# Altium footprint library 691 212 710 0xx.PcbLib: 2 footprints
Each footprint in its own frame and in the unit in brackets; x right, y up, seen from the top. Pads: shape width x height; smd on the part's side, far side on the other; paste and mask are expansions set on the pad; w line width, h text height; cw(c..) or ccw(c..) is an arc to the next point about the centre after c.
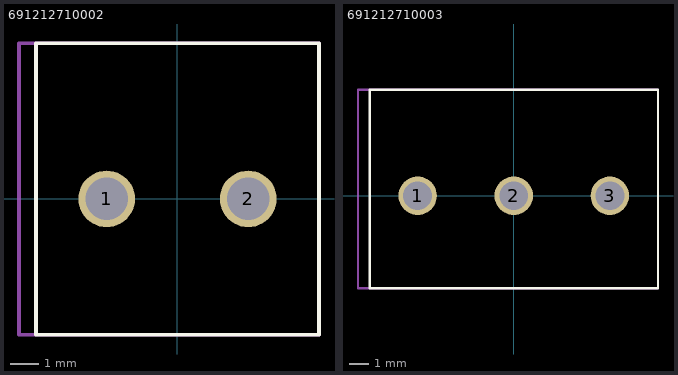
[diagram p0: the footprints below, top view; thin cyan lines are the x and y axes]

## 691212710002 [mm] "5,00mm - modular - green - Horizontal entry with rising cage clamp -  14,3mm height - 02p"
height 14.3
pads (2):
  round 2 hole 1.5: 1(-2.5,0) 2(2.5,0)
Top Overlay:
  lines w0.127: 5,4.8 5,5.15 ; -5,-4.8 5,-4.8 5,5.5 -5,5.5 -5,-4.8
Mechanical 13:
  lines w0.127: -5.6,-4.8 -5.6,5.5 5,5.5 5,-4.8 -5.6,-4.8
3D body: height 14.33, standoff -3.47, extent -5.6,-4.8 5,5.5

## 691212710003 [mm] "5,00mm - modular - green - Horizontal entry with rising cage clamp -  14,3mm height - 03p"
height 14.3
pads (3):
  round 2 hole 1.5: 1(-5,0) 2(0,0) 3(5,0)
Top Overlay:
  lines w0.127: -7.5,-4.8 7.5,-4.8 7.5,5.5 -7.5,5.5 -7.5,-4.8
Mechanical 13:
  lines w0.127: -8.1,-4.8 -8.1,5.5 7.5,5.5 7.5,-4.8 -8.1,-4.8
3D body: height 14.33, standoff -3.47, extent -8.1,-4.8 7.5,5.5